# Altium schematic symbol library N-Channel FET.SchLib: 448 symbols (part 6 of 8)
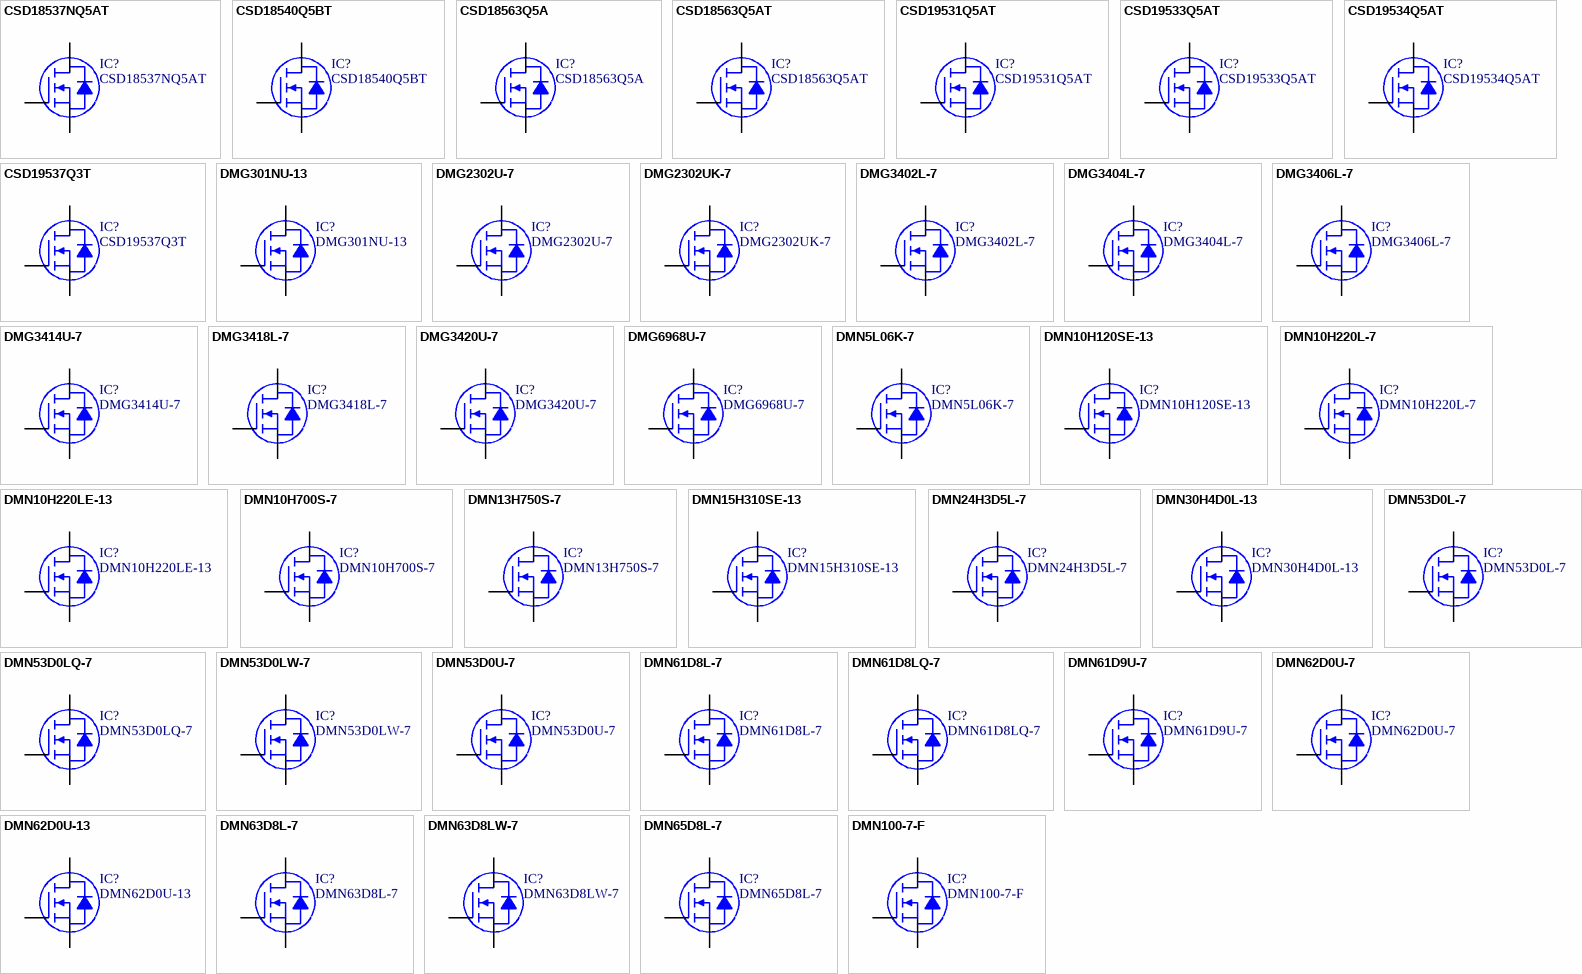
[diagram p16: symbols CSD18537NQ5AT to DMN100-7-F]

## DMN62D0U-7
designator IC?
MOSFET N-CH 60V 0.38A; Manufacturer: Diodes Incorporated; Rds On (Max) at Id, Vgs: 2 Ohm @ 100mA, 4.5V; Vgs(th) (Max) at Id: 20V; Gate Charge (Qg): 0.5nC @ 4.5V; Input Capacitance (Ciss) at Vds: 32pF @ 30V; Current Continuous Drain: 380mA (Ta); Part Number: DMN62D0U-7; PartId: 29553; Supplier 1: Digi-Key; Supplier Part Number 1: DMN62D0U-7DICT-ND; ComponentLink1Description: Datasheet; ComponentLink1URL: http://www.diodes.com/_files/datasheets/DMN62D0U.pdf; ComponentLink2Description: Digi-Key Listing; ComponentLink2URL: https://www.digikey.com/product-detail/en/diodes-incorporated/DMN62D0U-7/DMN62D0U-7DICT-ND/5453160; Price: 0.45; Type: N-Channel; Device Package: TO-236-3, SC-59, SOT-23-3; Drain to Source Voltage (Vdss): 60V
footprint DIODES SOT-23-3
pins: 1 G, 2 D, 3 S

## DMN62D0U-13
designator IC?
MOSFET N-CH 60V 0.38A; Manufacturer: Diodes Incorporated; Rds On (Max) at Id, Vgs: 2 Ohm @ 100mA, 4.5V; Vgs(th) (Max) at Id: 20V; Gate Charge (Qg): 0.5nC @ 4.5V; Input Capacitance (Ciss) at Vds: 32pF @ 30V; Current Continuous Drain: 380mA (Ta); Part Number: DMN62D0U-13; PartId: 29561; Supplier 1: Digi-Key; Supplier Part Number 1: DMN62D0U-13DICT-ND; ComponentLink1Description: Datasheet; ComponentLink1URL: http://www.diodes.com/_files/datasheets/DMN62D0U.pdf; ComponentLink2Description: Digi-Key Listing; ComponentLink2URL: https://www.digikey.com/product-detail/en/diodes-incorporated/DMN62D0U-13/DMN62D0U-13DICT-ND/5453159; Price: 0.45; Type: N-Channel; Device Package: TO-236-3, SC-59, SOT-23-3; Drain to Source Voltage (Vdss): 60V
footprint DIODES SOT-23-3
pins: 1 G, 2 D, 3 S

## DMN63D8L-7
designator IC?
MOSFET N-CH 30V 0.35A SOT23; Manufacturer: Diodes Incorporated; Rds On (Max) at Id, Vgs: 2.8 Ohm @ 250mA, 10V; Vgs(th) (Max) at Id: 20V; Gate Charge (Qg): 0.9nC @ 10V; Input Capacitance (Ciss) at Vds: 23.2pF @ 25V; Current Continuous Drain: 350mA (Ta); Part Number: DMN63D8L-7; PartId: 29559; Supplier 1: Digi-Key; Supplier Part Number 1: DMN63D8L-7DICT-ND; ComponentLink1Description: Datasheet; ComponentLink1URL: http://www.diodes.com/_files/datasheets/DMN63D8L.pdf; ComponentLink2Description: Digi-Key Listing; ComponentLink2URL: https://www.digikey.com/product-detail/en/diodes-incorporated/DMN63D8L-7/DMN63D8L-7DICT-ND/5699723; Price: 0.34; Type: N-Channel; Device Package: TO-236-3, SC-59, SOT-23-3; Drain to Source Voltage (Vdss): 30V
footprint DIODES SOT-23-3
pins: 1 G, 2 D, 3 S

## DMN63D8LW-7
designator IC?
MOSFET N-CH 30V 0.38A SOT323; Manufacturer: Diodes Incorporated; Rds On (Max) at Id, Vgs: 2.8 Ohm @ 250mA, 10V; Vgs(th) (Max) at Id: 1.5V @ 250uA; Gate Charge (Qg): 0.9nC @ 10V; Input Capacitance (Ciss) at Vds: 23.2pF @ 25V; Power - Max: 300mW; Current Continuous Drain: 380mA (Ta); Part Number: DMN63D8LW-7; PartId: 8079; Supplier 1: Digi-Key; Supplier Part Number 1: DMN63D8LW-7DITR-ND; ComponentLink1Description: Datasheet; ComponentLink1URL: http://www.diodes.com/_files/datasheets/DMN63D8LW.pdf; ComponentLink2Description: Digi-Key Listing; ComponentLink2URL: http://www.digikey.com/product-detail/en/DMN63D8LW-7/DMN63D8LW-7DITR-ND/5722401; Price: 0.0391; Type: MOSFET N-Channel, Metal Oxide; Device Package: SC-70, SOT-323; Drain to Source Voltage (Vdss): 30V; Features: Standard
footprint DIODES SOT-323-3
pins: 1 G, 2 D, 3 S

## DMN65D8L-7
designator IC?
MOSFET N-CH 60V 310MA SOT23; Manufacturer: Diodes Incorporated; Rds On (Max) at Id, Vgs: 3 Ohm @ 115mA, 10V; Vgs(th) (Max) at Id: 20V; Gate Charge (Qg): 0.87nC @ 10V; Input Capacitance (Ciss) at Vds: 22pF @ 25V; Current Continuous Drain: 310mA (Ta); Part Number: DMN65D8L-7; PartId: 29517; Supplier 1: Digi-Key; Supplier Part Number 1: DMN65D8L-7DICT-ND; ComponentLink1Description: Datasheet; ComponentLink1URL: http://www.diodes.com/_files/datasheets/DMN65D8L.pdf; ComponentLink2Description: Digi-Key Listing; ComponentLink2URL: https://www.digikey.com/product-detail/en/diodes-incorporated/DMN65D8L-7/DMN65D8L-7DICT-ND/3677916; Price: 0.23; Type: N-Channel; Device Package: TO-236-3, SC-59, SOT-23-3; Drain to Source Voltage (Vdss): 60V
footprint DIODES SOT-23-3
pins: 1 G, 2 D, 3 S

## DMN100-7-F
designator IC?
MOSFET N-CH 30V 1.1A SC59-3; Manufacturer: Diodes Incorporated; Rds On (Max) at Id, Vgs: 240 mOhm @ 1A, 10V; Vgs(th) (Max) at Id: 20V; Gate Charge (Qg): 5.5nC @ 10V; Input Capacitance (Ciss) at Vds: 150pF @ 10V; Current Continuous Drain: 1.1A (Ta); Part Number: DMN100-7-F; PartId: 29548; Supplier 1: Digi-Key; Supplier Part Number 1: DMN100-FDICT-ND; ComponentLink1Description: Datasheet; ComponentLink1URL: http://www.diodes.com/_files/datasheets/ds30049.pdf; ComponentLink2Description: Digi-Key Listing; ComponentLink2URL: https://www.digikey.com/product-detail/en/diodes-incorporated/DMN100-7-F/DMN100-FDICT-ND/815658; Price: 0.89; Type: N-Channel; Device Package: TO-236-3, SC-59, SOT-23-3; Drain to Source Voltage (Vdss): 30V
footprint DIODES SOT-23-3
pins: 1 G, 2 D, 3 S

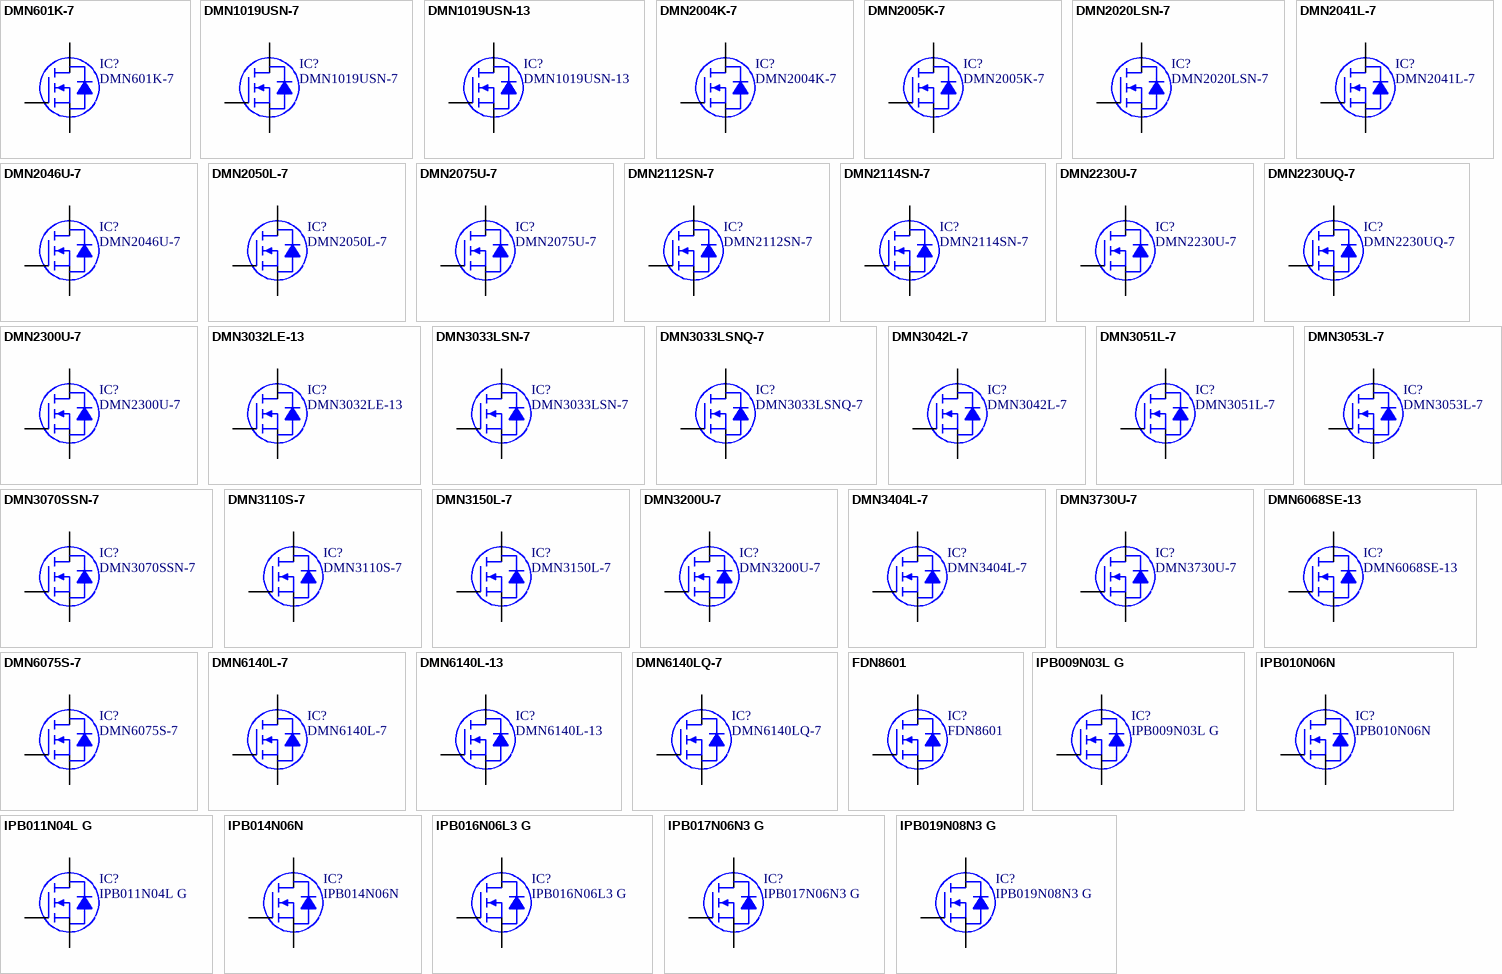
[diagram p7: symbols DMN601K-7 to IPB019N08N3 G]

## DMN601K-7
designator IC?
MOSFET N-CH 60V 300MA SOT23-3; Manufacturer: Diodes Incorporated; Rds On (Max) at Id, Vgs: 2 Ohm @ 500mA, 10V; Vgs(th) (Max) at Id: 20V; Input Capacitance (Ciss) at Vds: 50pF @ 25V; Current Continuous Drain: 300mA (Ta); Part Number: DMN601K-7; PartId: 29526; Supplier 1: Digi-Key; Supplier Part Number 1: DMN601KDICT-ND; ComponentLink1Description: Datasheet; ComponentLink1URL: http://www.diodes.com/_files/datasheets/ds30652.pdf; ComponentLink2Description: Digi-Key Listing; ComponentLink2URL: https://www.digikey.com/product-detail/en/diodes-incorporated/DMN601K-7/DMN601KDICT-ND/937178; Price: 0.65; Type: N-Channel; Device Package: TO-236-3, SC-59, SOT-23-3; Drain to Source Voltage (Vdss): 60V
footprint DIODES SOT-23-3
pins: 1 G, 2 D, 3 S

## DMN1019USN-7
designator IC?
MOSFET N-CH 12V 9.3A SC59; Manufacturer: Diodes Incorporated; Rds On (Max) at Id, Vgs: 10 mOhm @ 9.7A, 4.5V; Vgs(th) (Max) at Id: 8V; Gate Charge (Qg): 50.6nC @ 8V; Input Capacitance (Ciss) at Vds: 2426pF @ 10V; Current Continuous Drain: 9.3A (Ta); Part Number: DMN1019USN-7; PartId: 29572; Supplier 1: Digi-Key; Supplier Part Number 1: DMN1019USN-7DICT-ND; ComponentLink1Description: Datasheet; ComponentLink1URL: http://diodes.com/_files/datasheets/DMN1019USN.pdf; ComponentLink2Description: Digi-Key Listing; ComponentLink2URL: https://www.digikey.com/product-detail/en/diodes-incorporated/DMN1019USN-7/DMN1019USN-7DICT-ND/4898886; Price: 0.65; Type: N-Channel; Device Package: TO-236-3, SC-59, SOT-23-3; Drain to Source Voltage (Vdss): 12V
footprint DIODES SOT-23-3
pins: 1 G, 2 D, 3 S

## DMN1019USN-13
designator IC?
MOSFET N-CH 12V 9.3A SC59; Manufacturer: Diodes Incorporated; Rds On (Max) at Id, Vgs: 10 mOhm @ 9.7A, 4.5V; Vgs(th) (Max) at Id: 800mV @ 250uA; Gate Charge (Qg): 50.6nC @ 8V; Input Capacitance (Ciss) at Vds: 2426pF @ 10V; Power - Max: 680mW; Current Continuous Drain: 9.3A (Ta); Part Number: DMN1019USN-13; PartId: 8072; Supplier 1: Digi-Key; Supplier Part Number 1: DMN1019USN-13DITR-ND; ComponentLink1Description: Datasheet; ComponentLink1URL: http://diodes.com/_files/datasheets/DMN1019USN.pdf; ComponentLink2Description: Digi-Key Listing; ComponentLink2URL: http://www.digikey.com/product-detail/en/DMN1019USN-13/DMN1019USN-13DITR-ND/4898821; Price: 0.1061; Type: MOSFET N-Channel, Metal Oxide; Device Package: TO-236-3, SC-59, SOT-23-3; Drain to Source Voltage (Vdss): 12V; Features: Standard
footprint DIODES SOT-23-3
pins: 1 G, 2 D, 3 S

## DMN2004K-7
designator IC?
MOSFET N-CH 20V 0.63A SOT23-3; Manufacturer: Diodes Incorporated; Rds On (Max) at Id, Vgs: 550 mOhm @ 540mA, 4.5V; Vgs(th) (Max) at Id: 8V; Input Capacitance (Ciss) at Vds: 150pF @ 16V; Current Continuous Drain: 630mA (Ta); Part Number: DMN2004K-7; PartId: 29498; Supplier 1: Digi-Key; Supplier Part Number 1: DMN2004KDICT-ND; ComponentLink1Description: Datasheet; ComponentLink1URL: http://www.diodes.com/_files/datasheets/ds30938.pdf; ComponentLink2Description: Digi-Key Listing; ComponentLink2URL: https://www.digikey.com/product-detail/en/diodes-incorporated/DMN2004K-7/DMN2004KDICT-ND/1629616; Price: 0.65; Type: N-Channel; Device Package: TO-236-3, SC-59, SOT-23-3; Drain to Source Voltage (Vdss): 20V
footprint DIODES SOT-23-3
pins: 1 G, 2 D, 3 S

## DMN2005K-7
designator IC?
MOSFET N-CH 20V 300MA SOT23-3; Manufacturer: Diodes Incorporated; Rds On (Max) at Id, Vgs: 1.7 Ohm @ 200mA, 2.7V; Vgs(th) (Max) at Id: 10V; Current Continuous Drain: 300mA (Ta); Part Number: DMN2005K-7; PartId: 29571; Supplier 1: Digi-Key; Supplier Part Number 1: DMN2005K-7DICT-ND; ComponentLink1Description: Datasheet; ComponentLink1URL: http://www.diodes.com/_files/datasheets/ds30734.pdf; ComponentLink2Description: Digi-Key Listing; ComponentLink2URL: https://www.digikey.com/product-detail/en/diodes-incorporated/DMN2005K-7/DMN2005K-7DICT-ND/3877399; Price: 0.65; Type: N-Channel; Device Package: TO-236-3, SC-59, SOT-23-3; Drain to Source Voltage (Vdss): 20V
footprint DIODES SOT-23-3
pins: 1 G, 2 D, 3 S

## DMN2020LSN-7
designator IC?
MOSFET N-CH 20V 6.9A SC59; Manufacturer: Diodes Incorporated; Rds On (Max) at Id, Vgs: 20 mOhm @ 9.4A, 4.5V; Vgs(th) (Max) at Id: 12V; Gate Charge (Qg): 11.6nC @ 4.5V; Input Capacitance (Ciss) at Vds: 1149pF @ 10V; Current Continuous Drain: 6.9A (Ta); Part Number: DMN2020LSN-7; PartId: 29533; Supplier 1: Digi-Key; Supplier Part Number 1: DMN2020LSN-7DICT-ND; ComponentLink1Description: Datasheet; ComponentLink1URL: http://www.diodes.com/_files/datasheets/ds31946.pdf; ComponentLink2Description: Digi-Key Listing; ComponentLink2URL: https://www.digikey.com/product-detail/en/diodes-incorporated/DMN2020LSN-7/DMN2020LSN-7DICT-ND/2182565; Price: 0.66; Type: N-Channel; Device Package: TO-236-3, SC-59, SOT-23-3; Drain to Source Voltage (Vdss): 20V
footprint DIODES SOT-23-3
pins: 1 G, 2 D, 3 S

## DMN2041L-7
designator IC?
MOSFET N-CH 20V 6.4A SOT23; Manufacturer: Diodes Incorporated; Rds On (Max) at Id, Vgs: 28 mOhm @ 6A, 4.5V; Vgs(th) (Max) at Id: 12V; Gate Charge (Qg): 15.6nC @ 10V; Input Capacitance (Ciss) at Vds: 550pF @ 10V; Current Continuous Drain: 6.4A (Ta); Part Number: DMN2041L-7; PartId: 29499; Supplier 1: Digi-Key; Supplier Part Number 1: DMN2041L-7DICT-ND; ComponentLink1Description: Datasheet; ComponentLink1URL: http://www.diodes.com/_files/datasheets/ds31962.pdf; ComponentLink2Description: Digi-Key Listing; ComponentLink2URL: https://www.digikey.com/product-detail/en/diodes-incorporated/DMN2041L-7/DMN2041L-7DICT-ND/2182586; Price: 0.56; Type: N-Channel; Device Package: TO-236-3, SC-59, SOT-23-3; Drain to Source Voltage (Vdss): 20V
footprint DIODES SOT-23-3
pins: 1 G, 2 D, 3 S

## DMN2046U-7
designator IC?
MOSFET N-CH 20V 3.4A SOT23; Manufacturer: Diodes Incorporated; Rds On (Max) at Id, Vgs: 72 mOhm @ 3.6A, 4.5V; Vgs(th) (Max) at Id: 12V; Gate Charge (Qg): 3.8nC @ 4.5V; Input Capacitance (Ciss) at Vds: 292pF @ 10V; Current Continuous Drain: 3.4A (Ta); Part Number: DMN2046U-7; PartId: 29524; Supplier 1: Digi-Key; Supplier Part Number 1: DMN2046U-7DICT-ND; ComponentLink1Description: Datasheet; ComponentLink1URL: http://diodes.com/_files/datasheets/DMN2046U.pdf; ComponentLink2Description: Digi-Key Listing; ComponentLink2URL: https://www.digikey.com/product-detail/en/diodes-incorporated/DMN2046U-7/DMN2046U-7DICT-ND/5223243; Price: 0.54; Type: N-Channel; Device Package: TO-236-3, SC-59, SOT-23-3; Drain to Source Voltage (Vdss): 20V
footprint DIODES SOT-23-3
pins: 1 G, 2 D, 3 S

## DMN2050L-7
designator IC?
MOSFET N-CH 20V 5.9A SOT23-3; Manufacturer: Diodes Incorporated; Rds On (Max) at Id, Vgs: 29 mOhm @ 5A, 4.5V; Vgs(th) (Max) at Id: 12V; Gate Charge (Qg): 6.7nC @ 4.5V; Input Capacitance (Ciss) at Vds: 532pF @ 10V; Current Continuous Drain: 5.9A (Ta); Part Number: DMN2050L-7; PartId: 29538; Supplier 1: Digi-Key; Supplier Part Number 1: DMN2050LDICT-ND; ComponentLink1Description: Datasheet; ComponentLink1URL: http://www.diodes.com/_files/datasheets/ds31502.pdf; ComponentLink2Description: Digi-Key Listing; ComponentLink2URL: https://www.digikey.com/product-detail/en/diodes-incorporated/DMN2050L-7/DMN2050LDICT-ND/1964751; Price: 0.6; Type: N-Channel; Device Package: TO-236-3, SC-59, SOT-23-3; Drain to Source Voltage (Vdss): 20V
footprint DIODES SOT-23-3
pins: 1 G, 2 D, 3 S

## DMN2075U-7
designator IC?
MOSFET N-CH 20V 4.2A SOT23; Manufacturer: Diodes Incorporated; Rds On (Max) at Id, Vgs: 38 mOhm @ 3.6A, 4.5V; Vgs(th) (Max) at Id: 8V; Gate Charge (Qg): 7nC @ 4.5V; Input Capacitance (Ciss) at Vds: 594.3pF @ 10V; Current Continuous Drain: 4.2A (Ta); Part Number: DMN2075U-7; PartId: 29496; Supplier 1: Digi-Key; Supplier Part Number 1: DMN2075U-7DICT-ND; ComponentLink1Description: Datasheet; ComponentLink1URL: http://www.diodes.com/_files/datasheets/ds31837.pdf; ComponentLink2Description: Digi-Key Listing; ComponentLink2URL: https://www.digikey.com/product-detail/en/diodes-incorporated/DMN2075U-7/DMN2075U-7DICT-ND/2182579; Price: 0.57; Type: N-Channel; Device Package: TO-236-3, SC-59, SOT-23-3; Drain to Source Voltage (Vdss): 20V
footprint DIODES SOT-23-3
pins: 1 G, 2 D, 3 S

## DMN2112SN-7
designator IC?
MOSFET N-CH 20V 1.2A SC59-3; Manufacturer: Diodes Incorporated; Rds On (Max) at Id, Vgs: 100 mOhm @ 500mA, 4.5V; Vgs(th) (Max) at Id: 8V; Input Capacitance (Ciss) at Vds: 220pF @ 10V; Current Continuous Drain: 1.2A (Ta); Part Number: DMN2112SN-7; PartId: 29551; Supplier 1: Digi-Key; Supplier Part Number 1: DMN2112SNDICT-ND; ComponentLink1Description: Datasheet; ComponentLink1URL: http://www.diodes.com/_files/datasheets/ds30830.pdf; ComponentLink2Description: Digi-Key Listing; ComponentLink2URL: https://www.digikey.com/product-detail/en/diodes-incorporated/DMN2112SN-7/DMN2112SNDICT-ND/1629618; Price: 0.69; Type: N-Channel; Device Package: TO-236-3, SC-59, SOT-23-3; Drain to Source Voltage (Vdss): 20V
footprint DIODES SOT-23-3
pins: 1 G, 2 D, 3 S

## DMN2114SN-7
designator IC?
MOSFET N-CH 20V 1.2A SC59-3; Manufacturer: Diodes Incorporated; Rds On (Max) at Id, Vgs: 100 mOhm @ 500mA, 4.5V; Vgs(th) (Max) at Id: 12V; Input Capacitance (Ciss) at Vds: 180pF @ 10V; Current Continuous Drain: 1.2A (Ta); Part Number: DMN2114SN-7; PartId: 29573; Supplier 1: Digi-Key; Supplier Part Number 1: DMN2114SNDICT-ND; ComponentLink1Description: Datasheet; ComponentLink1URL: http://www.diodes.com/_files/datasheets/ds30829.pdf; ComponentLink2Description: Digi-Key Listing; ComponentLink2URL: https://www.digikey.com/product-detail/en/diodes-incorporated/DMN2114SN-7/DMN2114SNDICT-ND/1629619; Price: 0.69; Type: N-Channel; Device Package: TO-236-3, SC-59, SOT-23-3; Drain to Source Voltage (Vdss): 20V
footprint DIODES SOT-23-3
pins: 1 G, 2 D, 3 S

## DMN2230U-7
designator IC?
MOSFET N-CH 20V 2A SOT23-3; Manufacturer: Diodes Incorporated; Rds On (Max) at Id, Vgs: 110 mOhm @ 2.5A, 4.5V; Vgs(th) (Max) at Id: 12V; Input Capacitance (Ciss) at Vds: 188pF @ 10V; Current Continuous Drain: 2A (Ta); Part Number: DMN2230U-7; PartId: 29552; Supplier 1: Digi-Key; Supplier Part Number 1: DMN2230U-7DICT-ND; ComponentLink1Description: Datasheet; ComponentLink1URL: http://www.diodes.com/_files/datasheets/ds31180.pdf; ComponentLink2Description: Digi-Key Listing; ComponentLink2URL: https://www.digikey.com/product-detail/en/diodes-incorporated/DMN2230U-7/DMN2230U-7DICT-ND/2242786; Price: 0.69; Type: N-Channel; Device Package: TO-236-3, SC-59, SOT-23-3; Drain to Source Voltage (Vdss): 20V
footprint DIODES SOT-23-3
pins: 1 G, 2 D, 3 S

## DMN2230UQ-7
designator IC?
MOSFET N-CH 20V 2A SOT23; Manufacturer: Diodes Incorporated; Rds On (Max) at Id, Vgs: 110 mOhm @ 2.5A, 4.5V; Vgs(th) (Max) at Id: 12V; Gate Charge (Qg): 2.3nC @ 10V; Input Capacitance (Ciss) at Vds: 188pF @ 10V; Current Continuous Drain: 2A (Ta); Part Number: DMN2230UQ-7; PartId: 29569; Supplier 1: Digi-Key; Supplier Part Number 1: DMN2230UQ-7DICT-ND; ComponentLink1Description: Datasheet; ComponentLink1URL: http://www.diodes.com/_files/datasheets/DMN2230UQ.pdf; ComponentLink2Description: Digi-Key Listing; ComponentLink2URL: https://www.digikey.com/product-detail/en/diodes-incorporated/DMN2230UQ-7/DMN2230UQ-7DICT-ND/5956765; Price: 0.6; Type: N-Channel; Device Package: TO-236-3, SC-59, SOT-23-3; Drain to Source Voltage (Vdss): 20V
footprint DIODES SOT-23-3
pins: 1 G, 2 D, 3 S

## DMN2300U-7
designator IC?
MOSFET N-CH 20V 1.24A SOT23; Manufacturer: Diodes Incorporated; Rds On (Max) at Id, Vgs: 175 mOhm @ 300mA, 4.5V; Vgs(th) (Max) at Id: 8V; Gate Charge (Qg): 1.6nC @ 4.5V; Input Capacitance (Ciss) at Vds: 64.3pF @ 25V; Current Continuous Drain: 1.24A (Ta); Part Number: DMN2300U-7; PartId: 29532; Supplier 1: Digi-Key; Supplier Part Number 1: DMN2300U-7DICT-ND; ComponentLink1Description: Datasheet; ComponentLink1URL: http://www.diodes.com/_files/datasheets/DMN2300U.pdf; ComponentLink2Description: Digi-Key Listing; ComponentLink2URL: https://www.digikey.com/product-detail/en/diodes-incorporated/DMN2300U-7/DMN2300U-7DICT-ND/2792431; Price: 0.66; Type: N-Channel; Device Package: TO-236-3, SC-59, SOT-23-3; Drain to Source Voltage (Vdss): 20V
footprint DIODES SOT-23-3
pins: 1 G, 2 D, 3 S

## DMN3032LE-13
designator IC?
MOSFET N-CH 30V 5.6A SOT223; Manufacturer: Diodes Incorporated; Rds On (Max) at Id, Vgs: 29 mOhm @ 3.2A, 10V; Vgs(th) (Max) at Id: 2V @ 250uA; Gate Charge (Qg): 11.3nC @ 10V; Input Capacitance (Ciss) at Vds: 498pF @ 15V; Power - Max: 1.8W; Current Continuous Drain: 5.6A (Ta); Part Number: DMN3032LE-13; PartId: 8090; Supplier 1: Digi-Key; Supplier Part Number 1: DMN3032LE-13DITR-ND; ComponentLink1Description: Datasheet; ComponentLink1URL: http://diodes.com/_files/datasheets/DMN3032LE.pdf; ComponentLink2Description: Digi-Key Listing; ComponentLink2URL: http://www.digikey.com/product-detail/en/DMN3032LE-13/DMN3032LE-13DITR-ND/4747642; Price: 0.1937; Type: MOSFET N-Channel, Metal Oxide; Device Package: TO-261-4, TO-261AA; Drain to Source Voltage (Vdss): 30V; Features: Standard
footprint DIODES SOT-223
pins: 1 G, 2 D, 3 S, 4 D

## DMN3033LSN-7
designator IC?
MOSFET N-CH 30V 6A SC59-3; Manufacturer: Diodes Incorporated; Rds On (Max) at Id, Vgs: 30 mOhm @ 6A, 10V; Vgs(th) (Max) at Id: 20V; Gate Charge (Qg): 10.5nC @ 5V; Input Capacitance (Ciss) at Vds: 755pF @ 10V; Current Continuous Drain: 6A (Ta); Part Number: DMN3033LSN-7; PartId: 29536; Supplier 1: Digi-Key; Supplier Part Number 1: DMN3033LSNDICT-ND; ComponentLink1Description: Datasheet; ComponentLink1URL: http://www.diodes.com/_files/datasheets/ds31116.pdf; ComponentLink2Description: Digi-Key Listing; ComponentLink2URL: https://www.digikey.com/product-detail/en/diodes-incorporated/DMN3033LSN-7/DMN3033LSNDICT-ND/1774327; Price: 0.73; Type: N-Channel; Device Package: TO-236-3, SC-59, SOT-23-3; Drain to Source Voltage (Vdss): 30V
footprint DIODES SOT-23-3
pins: 1 G, 2 D, 3 S

## DMN3033LSNQ-7
designator IC?
MOSFET N-CH 30V 6A SC59-3; Manufacturer: Diodes Incorporated; Rds On (Max) at Id, Vgs: 30 mOhm @ 6A, 10V; Vgs(th) (Max) at Id: 20V; Gate Charge (Qg): 10.5nC @ 5V; Input Capacitance (Ciss) at Vds: 755pF @ 10V; Current Continuous Drain: 6A (Ta); Part Number: DMN3033LSNQ-7; PartId: 29558; Supplier 1: Digi-Key; Supplier Part Number 1: DMN3033LSNQ-7DICT-ND; ComponentLink1Description: Datasheet; ComponentLink1URL: http://diodes.com/_files/datasheets/DMN3033LSNQ.pdf; ComponentLink2Description: Digi-Key Listing; ComponentLink2URL: https://www.digikey.com/product-detail/en/diodes-incorporated/DMN3033LSNQ-7/DMN3033LSNQ-7DICT-ND/5360953; Price: 0.73; Type: N-Channel; Device Package: TO-236-3, SC-59, SOT-23-3; Drain to Source Voltage (Vdss): 30V
footprint DIODES SOT-23-3
pins: 1 G, 2 D, 3 S

## DMN3042L-7
designator IC?
MOSFET N-CH 30V 5.8A SOT23; Manufacturer: Diodes Incorporated; Rds On (Max) at Id, Vgs: 26.5 mOhm @ 5.8A, 10V; Vgs(th) (Max) at Id: 12V; Gate Charge (Qg): 20nC @ 10V; Input Capacitance (Ciss) at Vds: 860pF @ 15V; Current Continuous Drain: 5.8A (Ta); Part Number: DMN3042L-7; PartId: 29570; Supplier 1: Digi-Key; Supplier Part Number 1: DMN3042L-7DICT-ND; ComponentLink1Description: Datasheet; ComponentLink1URL: http://diodes.com/_files/datasheets/DMN3042L.pdf; ComponentLink2Description: Digi-Key Listing; ComponentLink2URL: https://www.digikey.com/product-detail/en/diodes-incorporated/DMN3042L-7/DMN3042L-7DICT-ND/5223244; Price: 0.62; Type: N-Channel; Device Package: TO-236-3, SC-59, SOT-23-3; Drain to Source Voltage (Vdss): 30V
footprint DIODES SOT-23-3
pins: 1 G, 2 D, 3 S

## DMN3051L-7
designator IC?
MOSFET N-CH 30V 5.8A SOT23-3; Manufacturer: Diodes Incorporated; Rds On (Max) at Id, Vgs: 38 mOhm @ 5.8A, 10V; Vgs(th) (Max) at Id: 20V; Input Capacitance (Ciss) at Vds: 424pF @ 5V; Current Continuous Drain: 5.8A (Ta); Part Number: DMN3051L-7; PartId: 29504; Supplier 1: Digi-Key; Supplier Part Number 1: DMN3051LDICT-ND; ComponentLink1Description: Datasheet; ComponentLink1URL: http://www.diodes.com/_files/datasheets/ds31347.pdf; ComponentLink2Description: Digi-Key Listing; ComponentLink2URL: https://www.digikey.com/product-detail/en/diodes-incorporated/DMN3051L-7/DMN3051LDICT-ND/1964754; Price: 0.66; Type: N-Channel; Device Package: TO-236-3, SC-59, SOT-23-3; Drain to Source Voltage (Vdss): 30V
footprint DIODES SOT-23-3
pins: 1 G, 2 D, 3 S

## DMN3053L-7
designator IC?
MOSFET N-CH 30V 4A SOT23-3; Manufacturer: Diodes Incorporated; Rds On (Max) at Id, Vgs: 45 mOhm @ 4A, 10V; Vgs(th) (Max) at Id: 12V; Gate Charge (Qg): 17.2nC @ 10V; Input Capacitance (Ciss) at Vds: 676pF @ 15V; Current Continuous Drain: 4A (Ta); Part Number: DMN3053L-7; PartId: 29567; Supplier 1: Digi-Key; Supplier Part Number 1: DMN3053L-7DICT-ND; ComponentLink1Description: Datasheet; ComponentLink1URL: http://diodes.com/_files/datasheets/DMN3053L.pdf; ComponentLink2Description: Digi-Key Listing; ComponentLink2URL: https://www.digikey.com/product-detail/en/diodes-incorporated/DMN3053L-7/DMN3053L-7DICT-ND/5149298; Price: 0.56; Type: N-Channel; Device Package: TO-236-3, SC-59, SOT-23-3; Drain to Source Voltage (Vdss): 30V
footprint DIODES SOT-23-3
pins: 1 G, 2 D, 3 S

## DMN3070SSN-7
designator IC?
MOSFET N-CH 30V 4.2A SC59; Manufacturer: Diodes Incorporated; Rds On (Max) at Id, Vgs: 40 mOhm @ 4.2A, 10V; Vgs(th) (Max) at Id: 20V; Gate Charge (Qg): 13.2nC @ 10V; Input Capacitance (Ciss) at Vds: 697pF @ 15V; Current Continuous Drain: 4.2A (Ta); Part Number: DMN3070SSN-7; PartId: 29566; Supplier 1: Digi-Key; Supplier Part Number 1: DMN3070SSN-7DICT-ND; ComponentLink1Description: Datasheet; ComponentLink1URL: http://www.diodes.com/_files/datasheets/DMN3070SSN.pdf; ComponentLink2Description: Digi-Key Listing; ComponentLink2URL: https://www.digikey.com/product-detail/en/diodes-incorporated/DMN3070SSN-7/DMN3070SSN-7DICT-ND/3983755; Price: 0.54; Type: N-Channel; Device Package: TO-236-3, SC-59, SOT-23-3; Drain to Source Voltage (Vdss): 30V
footprint DIODES SOT-23-3
pins: 1 G, 2 D, 3 S

## DMN3110S-7
designator IC?
MOSFET N-CH 30V 2.5A SOT-23; Manufacturer: Diodes Incorporated; Rds On (Max) at Id, Vgs: 73 mOhm @ 3.1mA, 10V; Vgs(th) (Max) at Id: 20V; Gate Charge (Qg): 8.6nC @ 10V; Input Capacitance (Ciss) at Vds: 305.8pF @ 15V; Current Continuous Drain: 2.5A (Ta); Part Number: DMN3110S-7; PartId: 29546; Supplier 1: Digi-Key; Supplier Part Number 1: DMN3110S-7DICT-ND; ComponentLink1Description: Datasheet; ComponentLink1URL: http://www.diodes.com/_files/datasheets/DMN3110S.pdf; ComponentLink2Description: Digi-Key Listing; ComponentLink2URL: https://www.digikey.com/product-detail/en/diodes-incorporated/DMN3110S-7/DMN3110S-7DICT-ND/2756048; Price: 0.79; Type: N-Channel; Device Package: TO-236-3, SC-59, SOT-23-3; Drain to Source Voltage (Vdss): 30V
footprint DIODES SOT-23-3
pins: 1 G, 2 D, 3 S

## DMN3150L-7
designator IC?
MOSFET N-CH 28V 3.2A SOT23-3; Manufacturer: Diodes Incorporated; Rds On (Max) at Id, Vgs: 85 mOhm @ 3.6A, 4.5V; Vgs(th) (Max) at Id: 12V; Input Capacitance (Ciss) at Vds: 305pF @ 5V; Current Continuous Drain: 3.8A (Ta); Part Number: DMN3150L-7; PartId: 29528; Supplier 1: Digi-Key; Supplier Part Number 1: DMN3150LDICT-ND; ComponentLink1Description: Datasheet; ComponentLink1URL: http://www.diodes.com/_files/datasheets/ds31126.pdf; ComponentLink2Description: Digi-Key Listing; ComponentLink2URL: https://www.digikey.com/product-detail/en/diodes-incorporated/DMN3150L-7/DMN3150LDICT-ND/1774236; Price: 0.62; Type: N-Channel; Device Package: TO-236-3, SC-59, SOT-23-3; Drain to Source Voltage (Vdss): 28V
footprint DIODES SOT-23-3
pins: 1 G, 2 D, 3 S

## DMN3200U-7
designator IC?
MOSFET N-CH 30V 2.2A SOT23-3; Manufacturer: Diodes Incorporated; Rds On (Max) at Id, Vgs: 90 mOhm @ 2.2A, 4.5V; Vgs(th) (Max) at Id: 8V; Input Capacitance (Ciss) at Vds: 290pF @ 10V; Current Continuous Drain: 2.2A (Ta); Part Number: DMN3200U-7; PartId: 29557; Supplier 1: Digi-Key; Supplier Part Number 1: DMN3200U-7DICT-ND; ComponentLink1Description: Datasheet; ComponentLink1URL: http://www.diodes.com/_files/datasheets/ds31188.pdf; ComponentLink2Description: Digi-Key Listing; ComponentLink2URL: https://www.digikey.com/product-detail/en/diodes-incorporated/DMN3200U-7/DMN3200U-7DICT-ND/5218398; Price: 0.69; Type: N-Channel; Device Package: TO-236-3, SC-59, SOT-23-3; Drain to Source Voltage (Vdss): 30V
footprint DIODES SOT-23-3
pins: 1 G, 2 D, 3 S

## DMN3404L-7
designator IC?
MOSFET N-CH 30V 5.8A SOT-23; Manufacturer: Diodes Incorporated; Rds On (Max) at Id, Vgs: 28 mOhm @ 5.8A, 10V; Vgs(th) (Max) at Id: 20V; Gate Charge (Qg): 9.2nC @ 10V; Input Capacitance (Ciss) at Vds: 386pF @ 15V; Current Continuous Drain: 5.8A (Ta); Part Number: DMN3404L-7; PartId: 29495; Supplier 1: Digi-Key; Supplier Part Number 1: DMN3404LDICT-ND; ComponentLink1Description: Datasheet; ComponentLink1URL: http://www.diodes.com/_files/datasheets/ds31787.pdf; ComponentLink2Description: Digi-Key Listing; ComponentLink2URL: https://www.digikey.com/product-detail/en/diodes-incorporated/DMN3404L-7/DMN3404LDICT-ND/2052805; Price: 0.57; Type: N-Channel; Device Package: TO-236-3, SC-59, SOT-23-3; Drain to Source Voltage (Vdss): 30V
footprint DIODES SOT-23-3
pins: 1 G, 2 D, 3 S

## DMN3730U-7
designator IC?
MOSFET N-CH 30V 750MA SOT23; Manufacturer: Diodes Incorporated; Rds On (Max) at Id, Vgs: 460 mOhm @ 200mA, 4.5V; Vgs(th) (Max) at Id: 8V; Gate Charge (Qg): 1.6nC @ 4.5V; Input Capacitance (Ciss) at Vds: 64.3pF @ 25V; Current Continuous Drain: 750mA (Ta); Part Number: DMN3730U-7; PartId: 29534; Supplier 1: Digi-Key; Supplier Part Number 1: DMN3730U-7DICT-ND; ComponentLink1Description: Datasheet; ComponentLink1URL: http://www.diodes.com/_files/datasheets/DMN3730U.pdf; ComponentLink2Description: Digi-Key Listing; ComponentLink2URL: https://www.digikey.com/product-detail/en/diodes-incorporated/DMN3730U-7/DMN3730U-7DICT-ND/2792455; Price: 0.66; Type: N-Channel; Device Package: TO-236-3, SC-59, SOT-23-3; Drain to Source Voltage (Vdss): 30V
footprint DIODES SOT-23-3
pins: 1 G, 2 D, 3 S

## DMN6068SE-13
designator IC?
MOSFET N-CH 60V 4.1A SOT223; Manufacturer: Diodes Incorporated; Rds On (Max) at Id, Vgs: 68 mOhm @ 12A, 10V; Vgs(th) (Max) at Id: 20V; Gate Charge (Qg): 10.3nC @ 10V; Input Capacitance (Ciss) at Vds: 502pF @ 30V; Current Continuous Drain: 4.1A (Ta); Part Number: DMN6068SE-13; PartId: 29645; Supplier 1: Digi-Key; Supplier Part Number 1: DMN6068SE-13CT-ND; ComponentLink1Description: Datasheet; ComponentLink1URL: http://www.diodes.com/_files/datasheets/ds32033.pdf; ComponentLink2Description: Digi-Key Listing; ComponentLink2URL: https://www.digikey.com/product-detail/en/diodes-incorporated/DMN6068SE-13/DMN6068SE-13CT-ND/2295255; Price: 0.87; Type: N-Channel; Device Package: TO-261-4, TO-261AA; Drain to Source Voltage (Vdss): 60V
footprint DIODES SOT-223
pins: 1 G, 2 D, 3 S, 4 D

## DMN6075S-7
designator IC?
MOSFET N-CH 60V 2A SOT23-3; Manufacturer: Diodes Incorporated; Rds On (Max) at Id, Vgs: 85 mOhm @ 3.2A, 10V; Vgs(th) (Max) at Id: 3V @ 250uA; Gate Charge (Qg): 12.3nC @ 10V; Input Capacitance (Ciss) at Vds: 606pF @ 20V; Power - Max: 800mW; Current Continuous Drain: 2A (Ta); Part Number: DMN6075S-7; PartId: 8077; Supplier 1: Digi-Key; Supplier Part Number 1: DMN6075S-7DITR-ND; ComponentLink1Description: Datasheet; ComponentLink1URL: http://diodes.com/_files/datasheets/DMN6075S.pdf; ComponentLink2Description: Digi-Key Listing; ComponentLink2URL: http://www.digikey.com/product-detail/en/DMN6075S-7/DMN6075S-7DITR-ND/5149292; Price: 0.0954; Type: MOSFET N-Channel, Metal Oxide; Device Package: TO-236-3, SC-59, SOT-23-3; Drain to Source Voltage (Vdss): 60V; Features: Standard
footprint DIODES SOT-23-3
pins: 1 G, 2 D, 3 S

## DMN6140L-7
designator IC?
MOSFET N-CH 60V 1.6A SOT-23; Manufacturer: Diodes Incorporated; Rds On (Max) at Id, Vgs: 140 mOhm @ 1.8A, 10V; Vgs(th) (Max) at Id: 20V; Gate Charge (Qg): 8.6nC @ 10V; Input Capacitance (Ciss) at Vds: 315pF @ 40V; Current Continuous Drain: 1.6A (Ta); Part Number: DMN6140L-7; PartId: 29523; Supplier 1: Digi-Key; Supplier Part Number 1: DMN6140L-7DICT-ND; ComponentLink1Description: Datasheet; ComponentLink1URL: http://diodes.com/_files/datasheets/DMN6140L.pdf; ComponentLink2Description: Digi-Key Listing; ComponentLink2URL: https://www.digikey.com/product-detail/en/diodes-incorporated/DMN6140L-7/DMN6140L-7DICT-ND/4794809; Price: 0.51; Type: N-Channel; Device Package: TO-236-3, SC-59, SOT-23-3; Drain to Source Voltage (Vdss): 60V
footprint DIODES SOT-23-3
pins: 1 G, 2 D, 3 S

## DMN6140L-13
designator IC?
MOSFET N-CH 60V 1.6A SOT23; Manufacturer: Diodes Incorporated; Rds On (Max) at Id, Vgs: 140 mOhm @ 1.8A, 10V; Vgs(th) (Max) at Id: 20V; Gate Charge (Qg): 8.6nC @ 10V; Input Capacitance (Ciss) at Vds: 315pF @ 40V; Current Continuous Drain: 1.6A (Ta); Part Number: DMN6140L-13; PartId: 29565; Supplier 1: Digi-Key; Supplier Part Number 1: DMN6140L-13DICT-ND; ComponentLink1Description: Datasheet; ComponentLink1URL: http://diodes.com/_files/datasheets/DMN6140L.pdf; ComponentLink2Description: Digi-Key Listing; ComponentLink2URL: https://www.digikey.com/product-detail/en/diodes-incorporated/DMN6140L-13/DMN6140L-13DICT-ND/5218250; Price: 0.51; Type: N-Channel; Device Package: TO-236-3, SC-59, SOT-23-3; Drain to Source Voltage (Vdss): 60V
footprint DIODES SOT-23-3
pins: 1 G, 2 D, 3 S

## DMN6140LQ-7
designator IC?
MOSFET N-CH 60V 1.6A SOT23; Manufacturer: Diodes Incorporated; Rds On (Max) at Id, Vgs: 140 mOhm @ 1.8A, 10V; Vgs(th) (Max) at Id: 20V; Gate Charge (Qg): 8.6nC @ 10V; Input Capacitance (Ciss) at Vds: 315pF @ 40V; Current Continuous Drain: 1.6A (Ta); Part Number: DMN6140LQ-7; PartId: 29556; Supplier 1: Digi-Key; Supplier Part Number 1: DMN6140LQ-7DICT-ND; ComponentLink1Description: Datasheet; ComponentLink1URL: http://diodes.com/_files/datasheets/DMN6140LQ.pdf; ComponentLink2Description: Digi-Key Listing; ComponentLink2URL: https://www.digikey.com/product-detail/en/diodes-incorporated/DMN6140LQ-7/DMN6140LQ-7DICT-ND/5360955; Price: 0.53; Type: N-Channel; Device Package: TO-236-3, SC-59, SOT-23-3; Drain to Source Voltage (Vdss): 60V
footprint DIODES SOT-23-3
pins: 1 G, 2 D, 3 S

## FDN8601
designator IC?
MOSFET N-CH 100V 2.7A 3SSOT; Manufacturer: Fairchild Semiconductor; Rds On (Max) at Id, Vgs: 109 mOhm @ 1.5A, 10V; Vgs(th) (Max) at Id: 4V @ 250uA; Gate Charge (Qg): 5nC @ 10V; Input Capacitance (Ciss) at Vds: 210pF @ 50V; Power - Max: 600mW; Current Continuous Drain: 2.7A (Ta); Part Number: FDN8601; PartId: 8078; Supplier 1: Digi-Key; Supplier Part Number 1: FDN8601TR-ND; ComponentLink1Description: Datasheet; ComponentLink1URL: http://www.fairchildsemi.com/datasheets/FD/FDN8601.pdf; ComponentLink2Description: Digi-Key Listing; ComponentLink2URL: http://www.digikey.com/product-detail/en/FDN8601/FDN8601TR-ND/2602570; Price: 0.35; Type: MOSFET N-Channel, Metal Oxide; Device Package: TO-236-3, SC-59, SOT-23-3; Drain to Source Voltage (Vdss): 100V; Features: Standard
footprint FAIRCHILD SSOT-23-3
pins: 1 G, 2 D, 3 S

## IPB009N03L G
designator IC?
MOSFET N-CH 30V 180A TO263-7; Manufacturer: Infineon Technologies; Rds On (Max) at Id, Vgs: 0.95 mOhm @ 100A, 10V; Vgs(th) (Max) at Id: 2.2V @ 250uA; Gate Charge (Qg): 227nC @ 10V; Input Capacitance (Ciss) at Vds: 25000pF @ 15V; Power - Max: 250W; Current Continuous Drain: 180A (Tc); Part Number: IPB009N03L G; PartId: 8071; Supplier 1: Digi-Key; Supplier Part Number 1: IPB009N03L GTR-ND; ComponentLink1Description: Datasheet; ComponentLink1URL: http://www.infineon.com/dgdl/IPB009N03L_rev1.0.pdf?folderId=db3a3043156fd5730115c7d50620107c&fileId=db3a30431689f4420116d426b6770ca3; ComponentLink2Description: Digi-Key Listing; ComponentLink2URL: http://www.digikey.com/product-detail/en/IPB009N03L%20G/IPB009N03L%20GTR-ND/2080875; Price: 1.4702; Type: MOSFET N-Channel, Metal Oxide; Device Package: TO-263-7, DPak (6 Leads + Tab), TO-263CB; Drain to Source Voltage (Vdss): 30V; Features: Logic Level Gate
footprint INFINEON TO-263-7
pins: 1 G, 2 S, 3 S, 5 S, 6 S, 7 S, 8 D

## IPB010N06N
designator IC?
MOSFET N-CH 60V 45A TO263-7; Manufacturer: Infineon Technologies; Rds On (Max) at Id, Vgs: 1 mOhm @ 100A, 10V; Vgs(th) (Max) at Id: 4V @ 280uA; Gate Charge (Qg): 208nC @ 10V; Input Capacitance (Ciss) at Vds: 15000pF @ 30V; Power - Max: 300W; Current Continuous Drain: 45A (Ta), 180A (Tc); Part Number: IPB010N06N; PartId: 8070; Supplier 1: Digi-Key; Supplier Part Number 1: IPB010N06NTR-ND; ComponentLink1Description: Datasheet; ComponentLink1URL: http://www.infineon.com/dgdl/IPB010N06N_Rev2+0.pdf?folderId=db3a304313b8b5a60113cee8763b02d7&fileId=db3a3043353fdc1601355341f17a485f; ComponentLink2Description: Digi-Key Listing; ComponentLink2URL: http://www.digikey.com/product-detail/en/IPB010N06N/IPB010N06NTR-ND/3721102; Price: 3.0661; Type: MOSFET N-Channel, Metal Oxide; Device Package: TO-263-7, DPak (6 Leads + Tab), TO-263CB; Drain to Source Voltage (Vdss): 60V; Features: Standard
footprint INFINEON TO-263-7
pins: 1 G, 2 S, 3 S, 5 S, 6 S, 7 S, 8 D

## IPB011N04L G
designator IC?
MOSFET N-CH 40V 180A TO263-7; Manufacturer: Infineon Technologies; Rds On (Max) at Id, Vgs: 1.1 mOhm @ 100A, 10V; Vgs(th) (Max) at Id: 2V @ 200uA; Gate Charge (Qg): 346nC @ 10V; Input Capacitance (Ciss) at Vds: 29000pF @ 20V; Power - Max: 250W; Current Continuous Drain: 180A (Tc); Part Number: IPB011N04L G; PartId: 8069; Supplier 1: Digi-Key; Supplier Part Number 1: IPB011N04L GTR-ND; ComponentLink1Description: Datasheet; ComponentLink1URL: http://www.infineon.com/dgdl/IPB011N04L_rev1.0.pdf?folderId=db3a3043156fd5730115c7d50620107c&fileId=db3a30431689f4420116c451f4e20825; ComponentLink2Description: Digi-Key Listing; ComponentLink2URL: http://www.digikey.com/product-detail/en/IPB011N04L%20G/IPB011N04L%20GTR-ND/2080876; Price: 1.8268; Type: MOSFET N-Channel, Metal Oxide; Device Package: TO-263-7, DPak (6 Leads + Tab), TO-263CB; Drain to Source Voltage (Vdss): 40V; Features: Logic Level Gate
footprint INFINEON TO-263-7
pins: 1 G, 2 S, 3 S, 5 S, 6 S, 7 S, 8 D

## IPB014N06N
designator IC?
MOSFET N-CH 60V 34A TO263-7; Manufacturer: Infineon Technologies; Rds On (Max) at Id, Vgs: 1.4 mOhm @ 100A, 10V; Vgs(th) (Max) at Id: 2.8V @ 143uA; Gate Charge (Qg): 106nC @ 10V; Input Capacitance (Ciss) at Vds: 7800pF @ 30V; Power - Max: 3W; Current Continuous Drain: 34A (Ta), 180A (Tc); Part Number: IPB014N06N; PartId: 8068; Supplier 1: Digi-Key; Supplier Part Number 1: IPB014N06NTR-ND; ComponentLink1Description: Datasheet; ComponentLink1URL: http://www.infineon.com/dgdl/IPB014N06N_Rev2+0.pdf?folderId=db3a304313b8b5a60113cee8763b02d7&fileId=db3a3043353fdc160135534e951e4873; ComponentLink2Description: Digi-Key Listing; ComponentLink2URL: http://www.digikey.com/product-detail/en/IPB014N06N/IPB014N06NTR-ND/3721104; Price: 1.54; Type: MOSFET N-Channel, Metal Oxide; Device Package: TO-263-7, DPak (6 Leads + Tab), TO-263CB; Drain to Source Voltage (Vdss): 60V; Features: Standard
footprint INFINEON TO-263-7
pins: 1 G, 2 S, 3 S, 5 S, 6 S, 7 S, 8 D

## IPB016N06L3 G
designator IC?
MOSFET N-CH 60V 180A TO263-7; Manufacturer: Infineon Technologies; Rds On (Max) at Id, Vgs: 1.6 mOhm @ 100A, 10V; Vgs(th) (Max) at Id: 2.2V @ 196uA; Gate Charge (Qg): 166nC @ 4.5V; Input Capacitance (Ciss) at Vds: 28000pF @ 30V; Power - Max: 250W; Current Continuous Drain: 180A (Tc); Part Number: IPB016N06L3 G; PartId: 8067; Supplier 1: Digi-Key; Supplier Part Number 1: IPB016N06L3 GTR-ND; ComponentLink1Description: Datasheet; ComponentLink1URL: http://www.infineon.com/dgdl/IPB016N06L3_Rev2.1.pdf?folderId=db3a30431441fb5d01148ca9f1be0e77&fileId=db3a30431ddc9372011e261543e54693; ComponentLink2Description: Digi-Key Listing; ComponentLink2URL: http://www.digikey.com/product-detail/en/IPB016N06L3%20G/IPB016N06L3%20GTR-ND/2080880; Price: 1.8198; Type: MOSFET N-Channel, Metal Oxide; Device Package: TO-263-7, DPak (6 Leads + Tab), TO-263CB; Drain to Source Voltage (Vdss): 60V; Features: Logic Level Gate
footprint INFINEON TO-263-7
pins: 1 G, 2 S, 3 S, 5 S, 6 S, 7 S, 8 D

## IPB017N06N3 G
designator IC?
MOSFET N-CH 60V 180A TO263-7; Manufacturer: Infineon Technologies; Rds On (Max) at Id, Vgs: 1.7 mOhm @ 100A, 10V; Vgs(th) (Max) at Id: 4V @ 196uA; Gate Charge (Qg): 275nC @ 10V; Input Capacitance (Ciss) at Vds: 23000pF @ 30V; Power - Max: 250W; Current Continuous Drain: 180A (Tc); Part Number: IPB017N06N3 G; PartId: 8066; Supplier 1: Digi-Key; Supplier Part Number 1: IPB017N06N3 GTR-ND; ComponentLink1Description: Datasheet; ComponentLink1URL: http://www.infineon.com/dgdl/IPB017N06N3_Rev2.0.pdf?folderId=db3a30431441fb5d01148ca9f1be0e77&fileId=db3a30431ddc9372011e264a7ab746ea; ComponentLink2Description: Digi-Key Listing; ComponentLink2URL: http://www.digikey.com/product-detail/en/IPB017N06N3%20G/IPB017N06N3%20GTR-ND/2080881; Price: 1.8194; Type: MOSFET N-Channel, Metal Oxide; Device Package: TO-263-7, DPak (6 Leads + Tab), TO-263CB; Drain to Source Voltage (Vdss): 60V; Features: Standard
footprint INFINEON TO-263-7
pins: 1 G, 2 S, 3 S, 5 S, 6 S, 7 S, 8 D

## IPB019N08N3 G
designator IC?
MOSFET N-CH 80V 180A TO263-7; Manufacturer: Infineon Technologies; Rds On (Max) at Id, Vgs: 1.9 mOhm @ 100A, 10V; Vgs(th) (Max) at Id: 3.5V @ 270uA; Gate Charge (Qg): 206nC @ 10V; Input Capacitance (Ciss) at Vds: 14200pF @ 40V; Power - Max: 300W; Current Continuous Drain: 180A (Tc); Part Number: IPB019N08N3 G; PartId: 8065; Supplier 1: Digi-Key; Supplier Part Number 1: IPB019N08N3 GTR-ND; ComponentLink1Description: Datasheet; ComponentLink1URL: http://www.infineon.com/dgdl/IPB019N08N3_Rev2.1.pdf?folderId=db3a304313b8b5a60113cee8763b02d7&fileId=db3a30431add1d95011ae87fdf90569f; ComponentLink2Description: Digi-Key Listing; ComponentLink2URL: http://www.digikey.com/product-detail/en/IPB019N08N3%20G/IPB019N08N3%20GTR-ND/1965817; Price: 2.561; Type: MOSFET N-Channel, Metal Oxide; Device Package: TO-263-7, DPak (6 Leads + Tab), TO-263CB; Drain to Source Voltage (Vdss): 80V; Features: Standard
footprint INFINEON TO-263-7
pins: 1 G, 2 S, 3 S, 5 S, 6 S, 7 S, 8 D

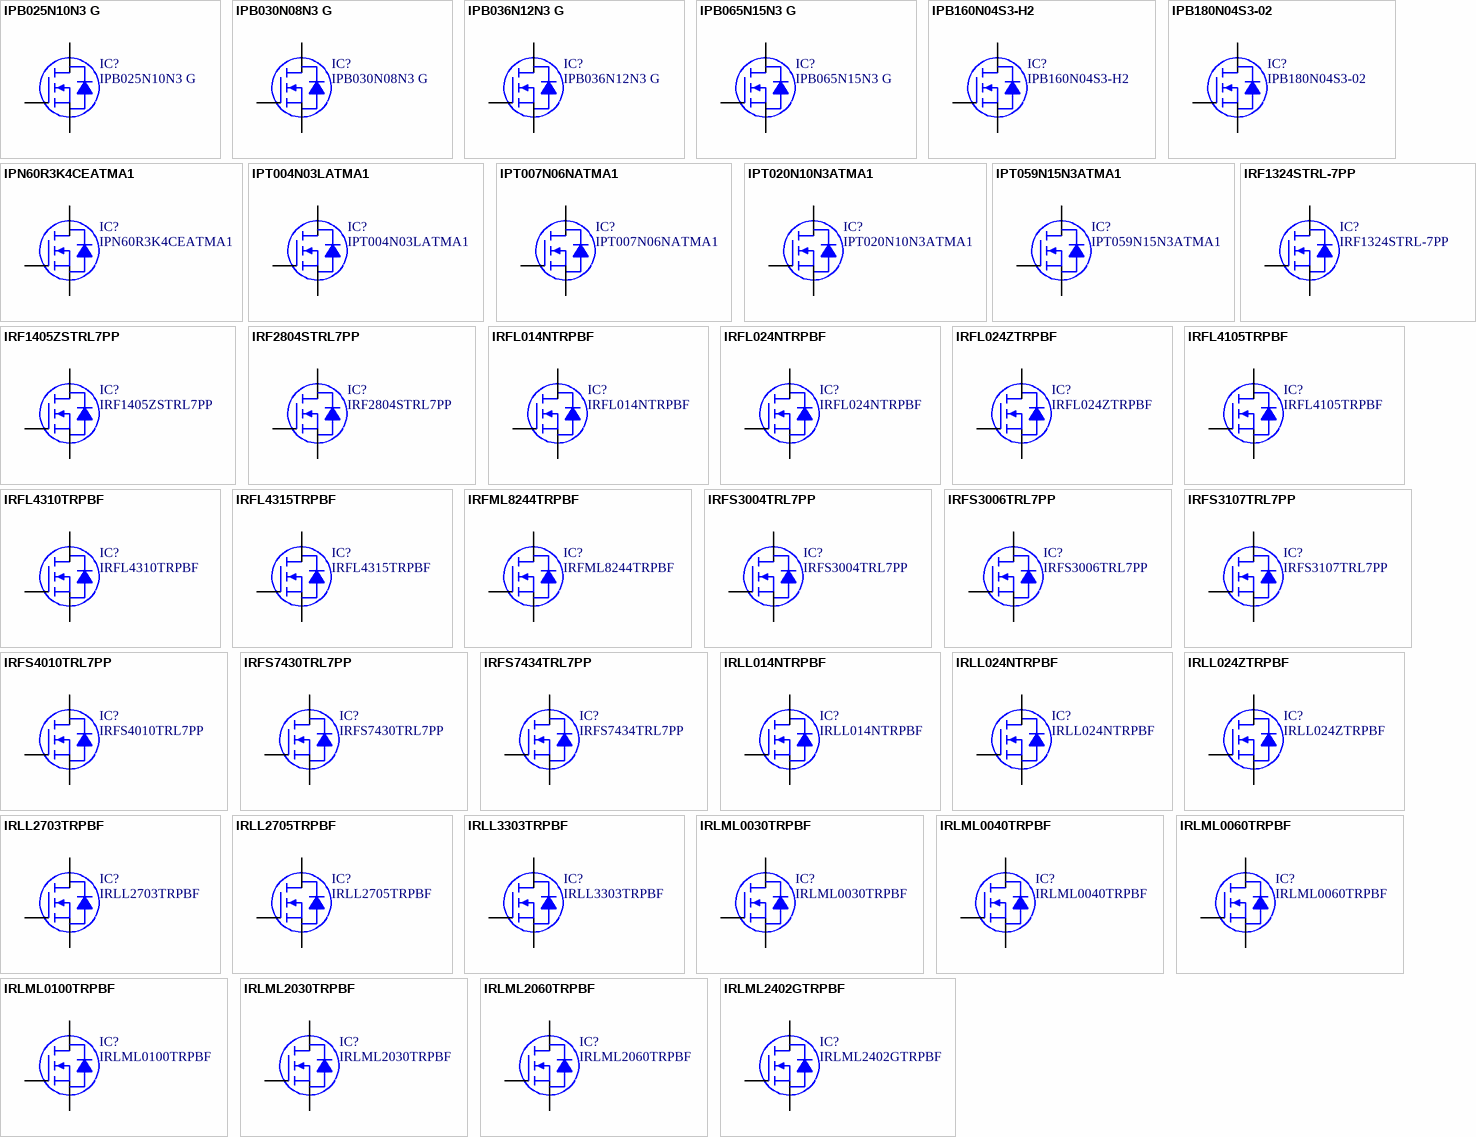
[diagram p8: symbols IPB025N10N3 G to IRLML2402GTRPBF]

## IPB025N10N3 G
designator IC?
MOSFET N-CH 100V 180A TO263-7; Manufacturer: Infineon Technologies; Rds On (Max) at Id, Vgs: 2.5 mOhm @ 100A, 10V; Vgs(th) (Max) at Id: 3.5V @ 275uA; Gate Charge (Qg): 206nC @ 10V; Input Capacitance (Ciss) at Vds: 14800pF @ 50V; Power - Max: 300W; Current Continuous Drain: 180A (Tc); Part Number: IPB025N10N3 G; PartId: 8064; Supplier 1: Digi-Key; Supplier Part Number 1: IPB025N10N3 GTR-ND; ComponentLink1Description: Datasheet; ComponentLink1URL: http://www.infineon.com/dgdl/IPB025N10N3+G_Rev2.1.pdf?folderId=db3a304313b8b5a60113cee8763b02d7&fileId=db3a30431ce5fb52011d1ab1d9d51349; ComponentLink2Description: Digi-Key Listing; ComponentLink2URL: http://www.digikey.com/product-detail/en/IPB025N10N3%20G/IPB025N10N3%20GTR-ND/2080889; Price: 2.7482; Type: MOSFET N-Channel, Metal Oxide; Device Package: TO-263-7, DPak (6 Leads + Tab), TO-263CB; Drain to Source Voltage (Vdss): 100V; Features: Standard
footprint INFINEON TO-263-7
pins: 1 G, 2 S, 3 S, 5 S, 6 S, 7 S, 8 D

## IPB030N08N3 G
designator IC?
MOSFET N-CH 80V 160A TO263-7; Manufacturer: Infineon Technologies; Rds On (Max) at Id, Vgs: 3 mOhm @ 100A, 10V; Vgs(th) (Max) at Id: 3.5V @ 155uA; Gate Charge (Qg): 117nC @ 10V; Input Capacitance (Ciss) at Vds: 8110pF @ 40V; Power - Max: 214W; Current Continuous Drain: 160A (Tc); Part Number: IPB030N08N3 G; PartId: 8063; Supplier 1: Digi-Key; Supplier Part Number 1: IPB030N08N3 GTR-ND; ComponentLink1Description: Datasheet; ComponentLink1URL: http://www.infineon.com/dgdl/IPB030N08N3_Rev2.1.pdf?folderId=db3a304313b8b5a60113cee8763b02d7&fileId=db3a30431add1d95011ae88a47a856b1; ComponentLink2Description: Digi-Key Listing; ComponentLink2URL: http://www.digikey.com/product-detail/en/IPB030N08N3%20G/IPB030N08N3%20GTR-ND/2080892; Price: 1.4314; Type: MOSFET N-Channel, Metal Oxide; Device Package: TO-263-7, DPak (6 Leads + Tab), TO-263CB; Drain to Source Voltage (Vdss): 80V; Features: Standard
footprint INFINEON TO-263-7
pins: 1 G, 2 S, 3 S, 5 S, 6 S, 7 S, 8 D

## IPB036N12N3 G
designator IC?
MOSFET N-CH 120V 180A TO263-7; Manufacturer: Infineon Technologies; Rds On (Max) at Id, Vgs: 3.6 mOhm @ 100A, 10V; Vgs(th) (Max) at Id: 4V @ 270uA; Gate Charge (Qg): 211nC @ 10V; Input Capacitance (Ciss) at Vds: 13800pF @ 60V; Power - Max: 300W; Current Continuous Drain: 180A (Tc); Part Number: IPB036N12N3 G; PartId: 8062; Supplier 1: Digi-Key; Supplier Part Number 1: IPB036N12N3 GTR-ND; ComponentLink1Description: Datasheet; ComponentLink1URL: http://www.infineon.com/dgdl/IPB036N12N3+G_Rev2.2.pdf?folderId=db3a304313b8b5a60113cee8763b02d7&fileId=db3a304323b87bc20123c7030ed51f56; ComponentLink2Description: Digi-Key Listing; ComponentLink2URL: http://www.digikey.com/product-detail/en/IPB036N12N3%20G/IPB036N12N3%20GTR-ND/2338047; Price: 2.8557; Type: MOSFET N-Channel, Metal Oxide; Device Package: TO-263-7, DPak (6 Leads + Tab), TO-263CB; Drain to Source Voltage (Vdss): 120V; Features: Standard
footprint INFINEON TO-263-7
pins: 1 G, 2 S, 3 S, 5 S, 6 S, 7 S, 8 D

## IPB065N15N3 G
designator IC?
MOSFET N-CH 150V 130A TO263-7; Manufacturer: Infineon Technologies; Rds On (Max) at Id, Vgs: 6.5 mOhm @ 100A, 10V; Vgs(th) (Max) at Id: 4V @ 270uA; Gate Charge (Qg): 93nC @ 10V; Input Capacitance (Ciss) at Vds: 7300pF @ 75V; Power - Max: 300W; Current Continuous Drain: 130A (Tc); Part Number: IPB065N15N3 G; PartId: 8061; Supplier 1: Digi-Key; Supplier Part Number 1: IPB065N15N3 GTR-ND; ComponentLink1Description: Datasheet; ComponentLink1URL: http://www.infineon.com/dgdl/IPB065N15N3+G_Rev2.1.pdf?folderId=db3a304326623792012669f6bee2224b&fileId=db3a30432662379201266a0379d1225c; ComponentLink2Description: Digi-Key Listing; ComponentLink2URL: http://www.digikey.com/product-detail/en/IPB065N15N3%20G/IPB065N15N3%20GTR-ND/2338049; Price: 3.2166; Type: MOSFET N-Channel, Metal Oxide; Device Package: TO-263-7, DPak (6 Leads + Tab), TO-263CB; Drain to Source Voltage (Vdss): 150V; Features: Standard
footprint INFINEON TO-263-7
pins: 1 G, 2 S, 3 S, 5 S, 6 S, 7 S, 8 D

## IPB160N04S3-H2
designator IC?
MOSFET N-CH 40V 160A TO263-7; Manufacturer: Infineon Technologies; Rds On (Max) at Id, Vgs: 2.1 mOhm @ 80A, 10V; Vgs(th) (Max) at Id: 4V @ 150uA; Gate Charge (Qg): 145nC @ 10V; Input Capacitance (Ciss) at Vds: 9600pF @ 25V; Power - Max: 214W; Current Continuous Drain: 160A (Tc); Part Number: IPB160N04S3-H2; PartId: 8060; Supplier 1: Digi-Key; Supplier Part Number 1: IPB160N04S3-H2TR-ND; ComponentLink1Description: Datasheet; ComponentLink1URL: http://www.infineon.com/dgdl/Infineon-IPB160N04S3_H2-DS-v01_00-en.pdf?fileId=db3a304412b407950112b42b8da04548&ack=t; ComponentLink2Description: Digi-Key Listing; ComponentLink2URL: http://www.digikey.com/product-detail/en/IPB160N04S3-H2/IPB160N04S3-H2TR-ND/2080934; Price: 1.1982; Type: MOSFET N-Channel, Metal Oxide; Device Package: TO-263-7, DPak (6 Leads + Tab), TO-263CB; Drain to Source Voltage (Vdss): 40V; Features: Standard
footprint INFINEON TO-263-7
pins: 1 G, 2 S, 3 S, 5 S, 6 S, 7 S, 8 D

## IPB180N04S3-02
designator IC?
MOSFET N-CH 40V 180A TO263-7; Manufacturer: Infineon Technologies; Rds On (Max) at Id, Vgs: 1.5 mOhm @ 80A, 10V; Vgs(th) (Max) at Id: 4V @ 230uA; Gate Charge (Qg): 210nC @ 10V; Input Capacitance (Ciss) at Vds: 14300pF @ 25V; Power - Max: 300W; Current Continuous Drain: 180A (Tc); Part Number: IPB180N04S3-02; PartId: 8059; Supplier 1: Digi-Key; Supplier Part Number 1: IPB180N04S3-02TR-ND; ComponentLink1Description: Datasheet; ComponentLink1URL: http://www.infineon.com/dgdl/Infineon-IPB180N04S3_02-DS-v01_00-en.pdf?fileId=db3a304412b407950112b42ba6cf45ab&ack=t; ComponentLink2Description: Digi-Key Listing; ComponentLink2URL: http://www.digikey.com/product-detail/en/IPB180N04S3-02/IPB180N04S3-02TR-ND/2080936; Price: 1.5166; Type: MOSFET N-Channel, Metal Oxide; Device Package: TO-263-7, DPak (6 Leads + Tab), TO-263CB; Drain to Source Voltage (Vdss): 40V; Features: Standard
footprint INFINEON TO-263-7
pins: 1 G, 2 S, 3 S, 5 S, 6 S, 7 S, 8 D

## IPN60R3K4CEATMA1
designator IC?
MOSFET NCH 600V 2.6A SOT223; Manufacturer: Infineon Technologies; Rds On (Max) at Id, Vgs: 3.4 Ohm @ 500mA, 10V; Vgs(th) (Max) at Id: 20V; Gate Charge (Qg): 4.6nC @ 10V; Input Capacitance (Ciss) at Vds: 93pF @ 100V; Current Continuous Drain: 2.6A (Tc); Part Number: IPN60R3K4CEATMA1; PartId: 29687; Supplier 1: Digi-Key; Supplier Part Number 1: IPN60R3K4CEATMA1CT-ND; ComponentLink1Description: Datasheet; ComponentLink1URL: http://www.infineon.com/dgdl/Infineon-IPN60R3K4CE-DS-v02_00-EN.pdf?fileId=5546d46253f6505701547af659125b4d; ComponentLink2Description: Digi-Key Listing; ComponentLink2URL: https://www.digikey.com/product-detail/en/infineon-technologies/IPN60R3K4CEATMA1/IPN60R3K4CEATMA1CT-ND/6138212; Price: 0.59; Type: N-Channel; Device Package: TO-261-4, TO-261AA; Drain to Source Voltage (Vdss): 600V; Features: Super Junction
footprint INFINEON SOT-223
pins: 1 G, 2 D, 3 S, 4 D

## IPT004N03LATMA1
designator IC?
MOSFET N-CH 30V 300A 8HSOF; Manufacturer: Infineon Technologies; Rds On (Max) at Id, Vgs: 0.4 mOhm @ 150A, 10V; Vgs(th) (Max) at Id: 2.2V @ 250uA; Gate Charge (Qg): 163nC @ 4.5V; Input Capacitance (Ciss) at Vds: 24000pF @ 15V; Power - Max: 300W; Current Continuous Drain: 300A (Tc); Part Number: IPT004N03LATMA1; PartId: 7968; Supplier 1: Digi-Key; Supplier Part Number 1: IPT004N03LATMA1TR-ND; ComponentLink1Description: Datasheet; ComponentLink1URL: http://www.infineon.com/dgdl/IPT004N03L_rev1.2.pdf?folderId=db3a304313b8b5a60113cee8763b02d7&fileId=db3a30433e9d5d11013e9e0f382600c2; ComponentLink2Description: Digi-Key Listing; ComponentLink2URL: http://www.digikey.com/product-detail/en/IPT004N03LATMA1/IPT004N03LATMA1TR-ND/4571870; Price: 1.862; Type: MOSFET N-Channel, Metal Oxide; Device Package: 8-PowerSFN; Drain to Source Voltage (Vdss): 30V; Features: Standard
footprint INFINEON PG-HSOF-8-1
pins: 1 G, 2 S, 3 S, 4 S, 5 S, 6 S, 7 S, 8 S, 9 D

## IPT007N06NATMA1
designator IC?
MOSFET N-CH 60V 300A 8HSOF; Manufacturer: Infineon Technologies; Rds On (Max) at Id, Vgs: 0.75 mOhm @ 150A, 10V; Vgs(th) (Max) at Id: 3.3V @ 280uA; Gate Charge (Qg): 216nC @ 10V; Input Capacitance (Ciss) at Vds: 16000pF @ 30V; Power - Max: 375W; Current Continuous Drain: 300A (Tc); Part Number: IPT007N06NATMA1; PartId: 7969; Supplier 1: Digi-Key; Supplier Part Number 1: IPT007N06NATMA1TR-ND; ComponentLink1Description: Datasheet; ComponentLink1URL: http://www.infineon.com/dgdl/IPT007N06N_Rev2.0.pdf?folderId=db3a304313b8b5a60113cee8763b02d7&fileId=db3a30433e9d5d11013e9e4618320118; ComponentLink2Description: Digi-Key Listing; ComponentLink2URL: http://www.digikey.com/product-detail/en/IPT007N06NATMA1/IPT007N06NATMA1TR-ND/4571871; Price: 2.8924; Type: MOSFET N-Channel, Metal Oxide; Device Package: 8-PowerSFN; Drain to Source Voltage (Vdss): 60V; Features: Standard
footprint INFINEON PG-HSOF-8-1
pins: 1 G, 2 S, 3 S, 4 S, 5 S, 6 S, 7 S, 8 S, 9 D

## IPT020N10N3ATMA1
designator IC?
MOSFET N-CH 100V 300A 8HSOF; Manufacturer: Infineon Technologies; Rds On (Max) at Id, Vgs: 2 mOhm @ 150A, 10V; Vgs(th) (Max) at Id: 3.5V @ 272uA; Gate Charge (Qg): 156nC @ 10V; Input Capacitance (Ciss) at Vds: 11200pF @ 50V; Power - Max: 375W; Current Continuous Drain: 300A (Tc); Part Number: IPT020N10N3ATMA1; PartId: 7970; Supplier 1: Digi-Key; Supplier Part Number 1: IPT020N10N3ATMA1TR-ND; ComponentLink1Description: Datasheet; ComponentLink1URL: http://www.infineon.com/dgdl/IPT020N10N3_Rev1.1.pdf?folderId=db3a304313b8b5a60113cee8763b02d7&fileId=db3a30433e9d5d11013e9e58035b0158; ComponentLink2Description: Digi-Key Listing; ComponentLink2URL: http://www.digikey.com/product-detail/en/IPT020N10N3ATMA1/IPT020N10N3ATMA1TR-ND/4571872; Price: 3.3442; Type: MOSFET N-Channel, Metal Oxide; Device Package: 8-PowerSFN; Drain to Source Voltage (Vdss): 100V; Features: Standard
footprint INFINEON PG-HSOF-8-1
pins: 1 G, 2 S, 3 S, 4 S, 5 S, 6 S, 7 S, 8 S, 9 D

## IPT059N15N3ATMA1
designator IC?
MOSFET N-CH 150V 155A 8HSOF; Manufacturer: Infineon Technologies; Rds On (Max) at Id, Vgs: 5.9 mOhm @ 150A, 10V; Vgs(th) (Max) at Id: 4V @ 270uA; Current Continuous Drain: 155A (Tc); Part Number: IPT059N15N3ATMA1; PartId: 21207; Supplier 1: Digi-Key; Supplier Part Number 1: IPT059N15N3ATMA1CT-ND; ComponentLink1Description: Datasheet; ComponentLink1URL: http://www.infineon.com/dgdl/IPT059N15N3+G_Rev1.1.pdf?folderId=db3a304326623792012669f6bee2224b&fileId=db3a30433e9d5d11013e9e62778d0185; ComponentLink2Description: Digi-Key Listing; ComponentLink2URL: http://www.digikey.ca/product-detail/en/infineon-technologies/IPT059N15N3ATMA1/IPT059N15N3ATMA1CT-ND/4571880; Price: 9.27; Type: N-Channel; Device Package: 8-PowerSFN; Drain to Source Voltage (Vdss): 150V; Features: -
footprint INFINEON PG-HSOF-8-1
pins: D, G, S